# Altium schematic symbol library DriverBoardForCNC.SCHLIB: 22 symbols
Pins are listed as number, name and electrical type; pins without a type are passive.

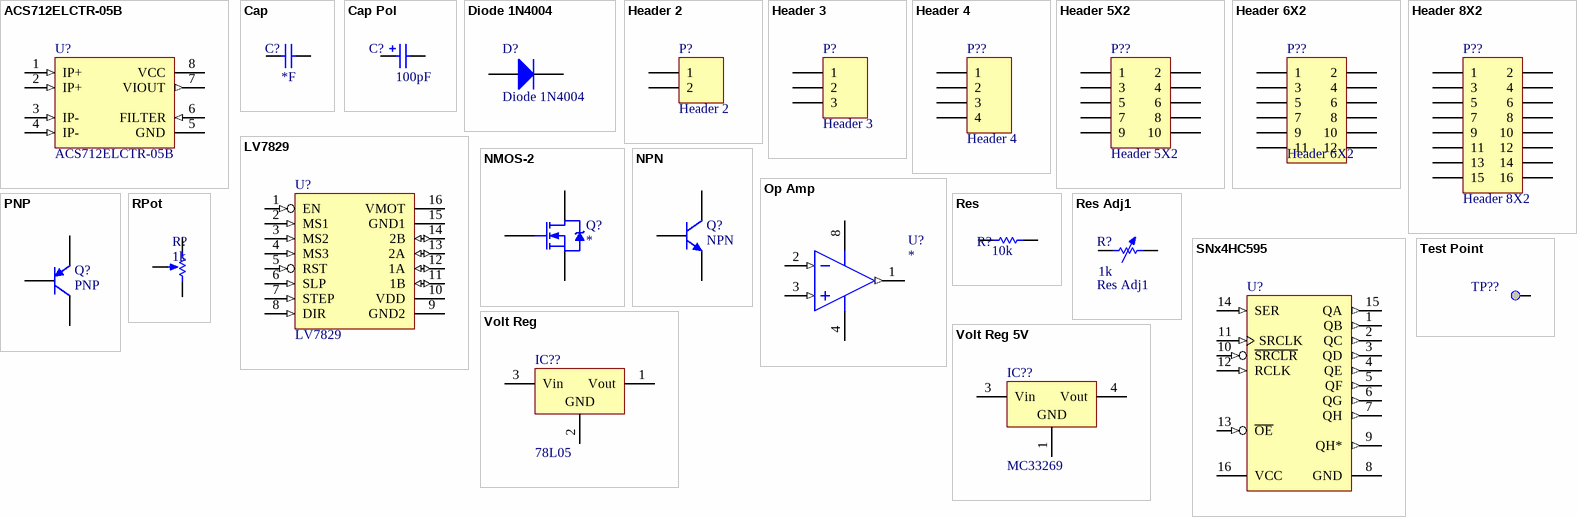
[diagram p0: symbols ACS712ELCTR-05B to Volt Reg 5V]

## ACS712ELCTR-05B
designator U?, comment value ACS712ELCTR-05B  (hidden comment: Current Sensor)
Hall-Effect-Based Linear Current Sensor +-5A; Manufacturer: Allegro; CHIPIDIP-code: MB1311; Manufacturer_Part_Number: ACS712ELCTR-05B; ComponentLink1Description: Datasheet; Part_Type: Sensor; ComponentLink1URL: http://tunmcdsvn.tun.st.com/Component_Datasheet_Library/Trunk/Diodes/STM_ESD_ESDA6V1BC6
footprint SO-8_L (8-Pin Small Outline Integrated Circuit 1.27 mm Pitch, IPC High Density)
pins: 1 IP+ (in), 2 IP+ (in), 3 IP- (in), 4 IP- (in), 5 GND (power), 6 FILTER (in), 7 VIOUT (out), 8 VCC (power)

## Cap
designator C?  value *F  (hidden comment: Cap)
Capacitor ceramic SMD; Manufacturer: Murata; Part_Type: Capacitor
footprint C1206 (Chip Capacitor, Body 3.2x1.6mm, IPC High Density)
simulation model CAP (Semiconductor Capacitor)
signal-integrity model Cap Semi
footprint C0805
pins: 1, 2

## Cap Pol
designator C?, comment value 100pF  (hidden comment: Cap Polarized)
Polarized Capacitor SMT; Manufacturer: JB; Manufacturer_Part_Number: *; CHIPIDIP-code: *; Part_Type: Capacitor
simulation model CAP (Capacitor)
signal-integrity model Cap Pol
footprint UD-6,3X5,8_NICHICON
pins: 1, 2
1 alternate drawing of the same symbol

## Diode 1N4004
designator D?
1 Amp General Purpose Rectifier; Part_Type: Diode, Axial; Body 5.2 x 2.7 mm (LxDia. max), Lead Dia. 0.86 mm (max); Value: 1N4004; ComponentLink1Description: Manufacturer Link; ComponentLink1URL: http://www.fairchildsemi.com/; ComponentLink2Description: Datasheet; ComponentLink2URL: http://www.fairchildsemi.com/ds/1N%2F1N4001.pdf
footprint DO-41 (Diode, Axial; Body 5.2 x 2.7 mm (LxDia. max), Lead Dia. 0.86 mm (max))
simulation model 1N4004 (DIODE)
signal-integrity model 1N4004
pins: 1 A, 2 K

## Header 2
designator P?
Header, 2-Pin; Part_Type: Connector; Manufacturer_Part_Number: *; Manufacturer: *; CHIPIDIP-code: *
footprint HDR1X2 (Connector; Header; 2 Position)
signal-integrity model Connector
pins: 1, 2

## Header 3
designator P?
Header, 3-Pin; Manufacturer: Re-released for DXP Platform.; Value: Connector; Manufacturer_Part_Number: *; Part_Type: *
footprint HDR1X3 (Connector; Header; 3 Position)
signal-integrity model Connector
pins: 1, 2, 3

## Header 4
designator P??
Header, 4-Pin; Manufacturer: Re-released for DXP Platform.; Value: Connector; Manufacturer_Part_Number: *; Part_Type: *
footprint HDR1X4 (Connector; Header; 4 Position)
signal-integrity model Connector
pins: 1, 2, 3, 4

## Header 5X2
designator P??
Header, 5-Pin, Dual row; Manufacturer: Re-released for DXP Platform.; Value: Connector; Manufacturer_Part_Number: *; Part_Type: *
footprint HDR2X5 (Connector; Header; 5x2 Position)
signal-integrity model Connector
pins: 1, 2, 3, 4, 5, 6, 7, 8, 9, 10

## Header 6X2
designator P??
Header, 6-Pin, Dual row; Manufacturer: Re-released for DXP Platform.; Value: Connector; Manufacturer_Part_Number: *; Part_Type: *
footprint HDR2X6 (Connector; Header; 6x2 Position)
signal-integrity model Connector
pins: 1, 2, 3, 4, 5, 6, 7, 8, 9, 10, 11, 12

## Header 8X2
designator P??
Header, 8-Pin, Dual row; Manufacturer: Re-released for DXP Platform.; Value: Connector; Manufacturer_Part_Number: *; Part_Type: *
footprint HDR2X8 (Connector; Header; 8x2 Position)
signal-integrity model Connector
pins: 1, 2, 3, 4, 5, 6, 7, 8, 9, 10, 11, 12, 13, 14, 15, 16

## LV7829
designator U?
Stepper motor driver; Manufacturer_Part_Number: LV7829 Module; Manufacturer: China; CHIPIDIP-code: none; ComponentLink1Description: Datasheet; Part_Type: Driver; ComponentLink1URL: http://tunmcdsvn.tun.st.com/Component_Datasheet_Library/Trunk/Diodes/STM_ESD_ESDA6V1BC6; Value: LV7829
footprint LV8729_BREAKOUT
pins: 1 EN (in), 2 MS1 (in), 3 MS2 (in), 4 MS3 (in), 5 RST (in), 6 SLP (in), 7 STEP (in), 8 DIR (in), 9 GND2 (power), 10 VDD (power), 11 1B (io), 12 1A (io), 13 2A (io), 14 2B (io), 15 GND1 (power), 16 VMOT (power)

## NMOS-2
designator Q?
N-Channel Power MOSFET; Manufacturer: IR; Part_Type: Transistor; Manufacturer_Part_Number: Pin 2 is electrically connected to pin 4.; CHIPIDIP-code: *; Value: *; ComponentLink1Description: Manufacturer Link; ComponentLink1URL: http://www.irf.com/
simulation model IRF1010 (Spice Subcircuit)
footprint TO220BV
pins: 1 G, 2 D, 3 S

## NPN
designator Q?
NPN Bipolar Transistor; Manufacturer: 8-Jun-2000; Part_Type: Transistor; Value: *; Manufacturer_Part_Number: *; CHIPIDIP-code: *
footprint TO-226-AA (TO, Flat Index; 3 In-Line, Axial Leads; Body Dia. 4.8mm; Leads 0.55 x 0.51 mm (max))
simulation model NPN
signal-integrity model NPN
footprint TO92
pins: 1 C, 2 B, 3 E

## Op Amp
designator U?
FET Operational Amplifier; Part_Type: OpAmp; Manufacturer: Altium Limited; Manufacturer_Part_Number: 8-Jun-2000; ComponentLink1Description: Manufacturer Link; ComponentLink1URL: http://www.analog.com/; Value: *
footprint H-08A (Can; 8 Leads; Pin Circle Dia. 5.08 mm; Lead Dia. 0.53 mm (max))
simulation model AD645A (Spice Subcircuit)
footprint SO-8_L (8-Pin Small Outline Integrated Circuit 1.27 mm Pitch, IPC High Density)
pins: 1 OUT (out), 2 IN- (in), 3 IN+ (in), 4 V- (power), 8 V+ (power)

## PNP
designator Q?
PNP Bipolar Transistor; Value: Altium Limited; Manufacturer: 8-Jun-2000; Manufacturer_Part_Number: Aug-1999; Part_Type: Transistor
footprint SOT-23B_N (SOT23, 3-Leads, Body 2.9x1.3mm, Pitch 0.95mm, Lead Span 2.4mm, IPC Medium Density)
footprint SOT-23B_L (SOT23, 3-Leads, Body 2.9x1.3mm, Pitch 0.95mm, Lead Span 2.4mm, IPC High Density)
footprint SOT-23B_M (SOT23, 3-Leads, Body 2.9x1.3mm, Pitch 0.95mm, Lead Span 2.4mm, IPC Low Density)
simulation model PNP
signal-integrity model PNP
pins: 1 C, 2 B, 3 E

## Res
designator R?, comment 10k
Rectangular Thick Film Chip Resistor; Manufacturer: Altium Limited; Note: If flow soldering, adjust pad width of PCB Footprint to 0.7 - 0.8 times the width of the resistor.; Manufacturer_Part_Number: 17-Dec-2003; Part_Type: Resistor; ComponentLink1Description: Manufacturer Link; ComponentLink1URL: http://www.panasonic.com/industrial/components/resistive_products.htm; ComponentLink2Description: Datasheet; ComponentLink2URL: http://www.panasonic.com/industrial/components/pdf/AOA0000CE8.pdf; Value: 10k
footprint RES-0805 (Chip Resistor; Body 2 x 1.3 mm (LxW typ))
simulation model RESISTOR (Resistor)
signal-integrity model Res
pins: 1, 2

## Res Adj1
designator R?  value 1k
Variable Resistor; Manufacturer: Altium Limited; Manufacturer_Part_Number: 8-Jun-2000; Part_Type: Variable Resistor
footprint AXIAL-0.7 (Axial Device, Thru-Hole; 2 Leads; 0.7 in Pin Spacing)
simulation model VRES (Variable Resistor)
signal-integrity model Res Adj
pins: 1, 2

## RPot
designator R?, comment 1k
Potentiometer; Manufacturer: Bourns; Set Position: 0.5; Manufacturer_Part_Number: 17-Jul-2002; Part_Type: Potentiometer; Value: 1k
footprint VR5 (Thru-Hole; 3 Leads)
simulation model POT (Potentiometer)
pins: 1 TOP, 2 TAP, 3 BOT
1 alternate drawing of the same symbol

## SNx4HC595
designator U?  value SNx4HC595
8-bit shift register with 3-state output register; Manufacturer_Part_Number: SN74HC595D; Manufacturer: TI; ComponentLink1Description: Datasheet; Part_Type: Shift register; ComponentLink1URL: https://www.ti.com/lit/ds/symlink/sn74hc595.pdf?ts=1627877923531&ref_url=https%253A%252F%252Fwww.google.com%252F
footprint SO16
pins: 1 QB (out), 2 QC (out), 3 QD (out), 4 QE (out), 5 QF (out), 6 QG (out), 7 QH (out), 8 GND (power), 9 QH* (out), 10 ~{SRCLR} (in) "direct overriding clear", 11 SRCLK (in), 12 RCLK (in), 13 ~{OE} (in) "output enable", 14 SER (in), 15 QA (out), 16 VCC (power)

## Test Point
designator TP??  (no BOM)
Test Point; Part_Type: Mechanical; Status: Released; Manufacturer_Part_Number: n/a; Manufacturer: n/a; ComponentLink1Description: Datasheet; ComponentLink1URL: http://na
footprint TestPoint
footprint TP_SMD_0-6MM
footprint TP_SMD_1MM
pins: 1

## Volt Reg
designator IC??, comment 78L05
5V Voltage Regulator; Manufacturer_Part_Number: LM78L05ACZ; Manufacturer: Fairchild; Value: 78L05; Part_Type: Voltage regulator
footprint D2PAK_N (D2-PAK, 4-Leads, Body 8.8x10.4mm, Pitch 2.54mm, Lead Span 15.1mm, IPC Medium Density)
footprint D2PAK_L (D2-PAK, 4-Leads, Body 8.8x10.4mm, Pitch 2.54mm, Lead Span 15.1mm, IPC High Density)
footprint D2PAK_M (D2-PAK, 4-Leads, Body 8.8x10.4mm, Pitch 2.54mm, Lead Span 15.1mm, IPC Low Density)
footprint TO92
footprint TO92 Bent Lead (TO92  Bent Lead)
pins: 1 Vout, 2 GND, 3 Vin

## Volt Reg 5V
designator IC??, comment MC33269
5V Voltage Regulator; Manufacturer_Part_Number: MC33269DT−5.0; Manufacturer: ON Semiconductor; CHIPIDIP-code: 563066499; Value: MC33269; Part_Type: Voltage regulator
footprint D2PAK_N (D2-PAK, 4-Leads, Body 8.8x10.4mm, Pitch 2.54mm, Lead Span 15.1mm, IPC Medium Density)
footprint D2PAK_L (D2-PAK, 4-Leads, Body 8.8x10.4mm, Pitch 2.54mm, Lead Span 15.1mm, IPC High Density)
footprint DPAK (D-PAK, 3-Pads, Body 6.22x6.73mm (max), TO-252AA using nominal STEP model)
footprint TO92
footprint TO92 Bent Lead (TO92  Bent Lead)
pins: 1 GND, 3 Vin, 4 Vout